# EAGLE library part ICSP-HEADER (library SaintGimp)
ICSP HEADER Standard 6 pin header for ICSP programming
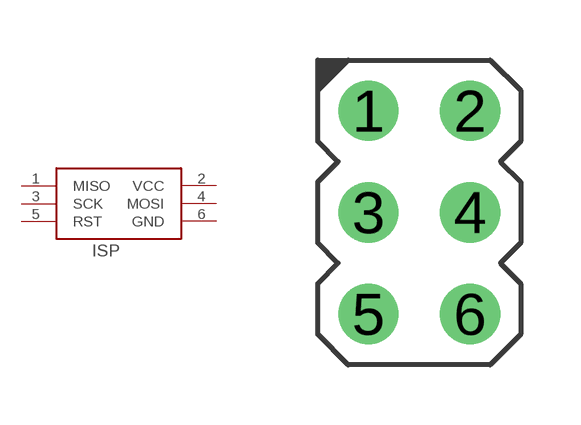
[diagram p0: symbol with the pads of ICSP-HEADER; footprint ICSP-HEADER]

Designator prefix ISP

## ICSP-HEADER-6  [ICSP-HEADER]
1  MISO  in
2  VCC  pwr
3  SCK  out
4  MOSI  out
5  RST  out
6  GND  pwr

## Footprint ICSP-HEADER (pad centres in mm)
drill 1: 1 -1.27,2.54; 2 1.27,2.54; 3 -1.27,0; 4 1.27,0; 5 -1.27,-2.54; 6 1.27,-2.54